# EAGLE library part JS202011SCQN (library JS202011SCQN)
Sub miniature slide switches Source: Datasheet <http://www.ckswitches.com/media/1422/js.pdf>
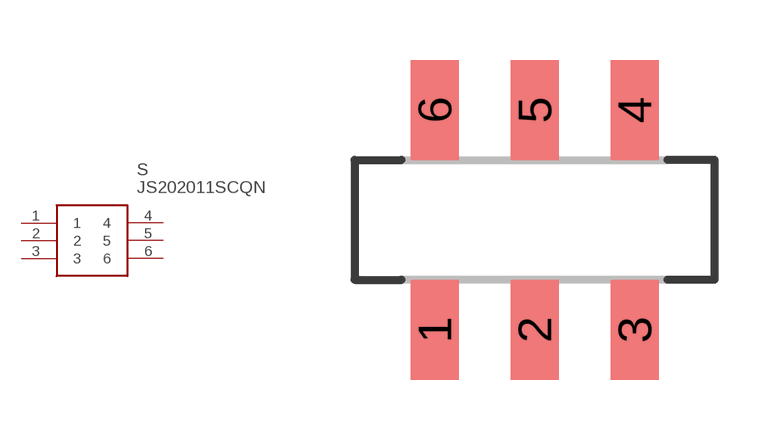
[diagram p0: symbol with the pads of JS202011SCQN; footprint JS202011SCQN]

Designator prefix S

## JS202011SCQN (Description: Sub miniature slide switches; Height: mm; Manufacturer_Name: C & K COMPONENTS; Manufacturer_Part_Number: JS202011SCQN; RS_Part_Number: 1534125; RS_Price/Stock: http://uk.rs-online.com/web/p/products/1534125)  [JS202011SCQN]
1  1  in
2  2  in
3  3  in
4  4  in
5  5  in
6  6  in

## Footprint JS202011SCQN (pad centres in mm)
JS202011SCQN
smd 1.2 x 2.5: 1 -2.5,-2.75; 2 0,-2.75; 3 2.5,-2.75; 4 2.5,2.75; 5 0,2.75; 6 -2.5,2.75